# EAGLE library part TPS23754PWP (library TPS23754PWP)
Texas Instruments TPS23754PWP, DC-DC Controller, 57 V, DC to DC Isolator Converter, 278 kHz, 20-Pin, TSSOP Source: Datasheet <http://www.ti.com/lit/gpn/tps23754>
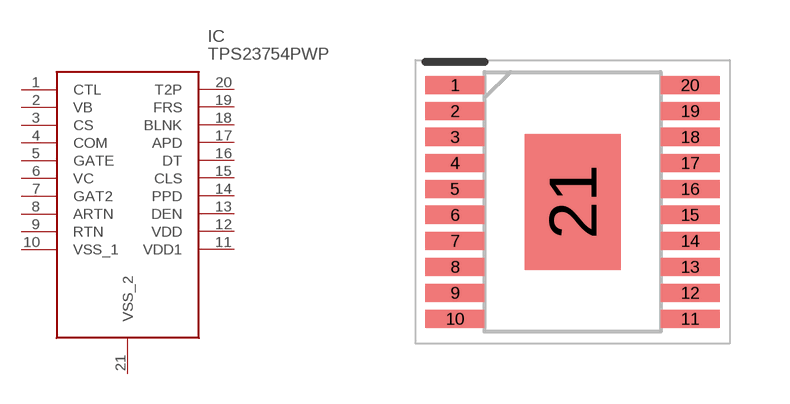
[diagram p0: symbol with the pads of SOP65P640X120-21N; footprint SOP65P640X120-21N]

Designator prefix IC

## TPS23754PWP (Description: Texas Instruments TPS23754PWP, DC-DC Controller, 57 V, DC to DC Isolator Converter, 278 kHz, 20-Pin, TSSOP; Height: 1.2mm; Manufacturer_Name: Texas Instruments; Manufacturer_Part_Number: TPS23754PWP; Mouser_Part_Number: 595-TPS23754PWP; Mouser_Price-Stock: https://www.mouser.co.uk/ProductDetail/Texas-Instruments/TPS23754PWP?qs=XGzIaZb%2FFYIm64IZifvviQ%3D%3D)  [SOP65P640X120-21N]
1  CTL
2  VB
3  CS
4  COM
5  GATE
6  VC
7  GAT2
8  ARTN
9  RTN
10  VSS_1
11  VDD1
12  VDD
13  DEN
14  PPD
15  CLS
16  DT
17  APD
18  BLNK
19  FRS
20  T2P
21  VSS_2

## Footprint SOP65P640X120-21N (pad centres in mm)
PWP (R-PDSO-G20)
smd 1.475 x 0.45: 1 -2.938,2.925; 2 -2.938,2.275; 3 -2.938,1.625; 4 -2.938,0.975; 5 -2.938,0.325; 6 -2.938,-0.325; 7 -2.938,-0.975; 8 -2.938,-1.625; 9 -2.938,-2.275; 10 -2.938,-2.925; 11 2.938,-2.925; 12 2.938,-2.275; 13 2.938,-1.625; 14 2.938,-0.975; 15 2.938,-0.325; 16 2.938,0.325; 17 2.938,0.975; 18 2.938,1.625; 19 2.938,2.275; 20 2.938,2.925
smd 2.4 x 3.4: 21 0,0